# Altium schematic symbol library Generic Connectors.SchLib: 6 symbols
Pins are listed as number, name and electrical type; pins without a type are passive.

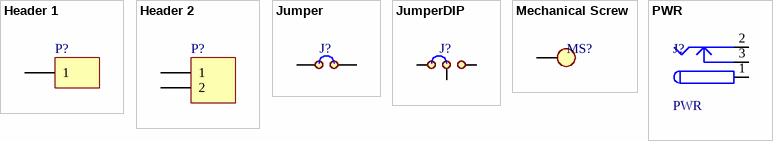
[diagram p0: symbols Header 1 to PWR]

## Header 1
designator P?  (value not drawn)
Header, 1-Pin
signal-integrity model Connector
footprint HC_PAD (High Current Pad)
pins: 1

## Header 2
designator P?  (value not drawn)
Header, 2-Pin
signal-integrity model Connector
footprint HC_PAD 2 PIN (High Current Pad 2 PIN)
pins: 1, 2

## Jumper
designator J?  (value not drawn)
Jumper
footprint HDR1X2 (Connector; Header; 2 Position)
pins: 1, 2

## JumperDIP
designator J?  (value not drawn)
Jumper Switch DIP
footprint HDR1X3 (Connector; Header; 3 Position)
pins: 1, 2, 3

## Mechanical Screw
designator MS?  (value not drawn)
signal-integrity model Connector
footprint M2 Screw Hole (Mechanical Screw Hole Fits M2, M2.2, 2-56 Screw)
footprint M2 Screw Hole (MIN) (Minimal Screw Hole Fits M2, M2.2, 2-56 Screw)
footprint M3 SCREW HOLE (Mechanical Screw Hole Fits M3, 4-40 Screw)
pins: 0

## PWR
designator J?
DC Power Barrel Connector; Part No.: CP-002BHPJCT-ND; Manufacturer: CUI; Vendor: Digi-Key; Notes: PJ-002AH-SMT for 2.1mm ID; Price Est.: $0.90
signal-integrity model Connector
footprint DC Barrel SMT (Footprint not found)
pins: 1 (power), 2 (power), 3 (power)